# Altium schematic symbol library lib_Gabriel.SchLib: 6 symbols
Pins are listed as number, name and electrical type; pins without a type are passive.

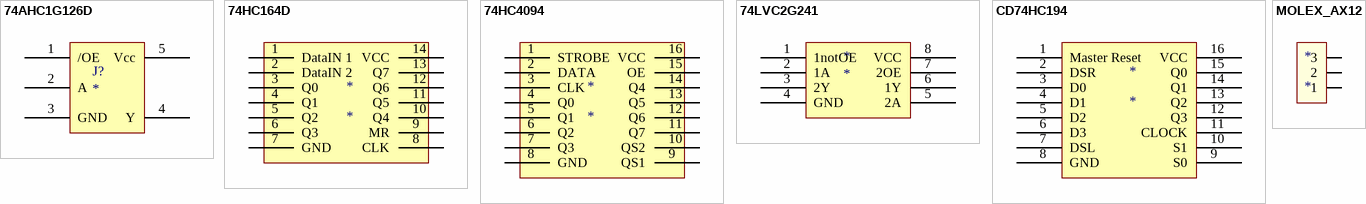
[diagram p0: symbols 74AHC1G126D to MOLEX_AX12]

## 74AHC1G126D
designator J?
footprint 74AHC1G126DVBR
pins: 1 /OE, 2 A, 3 GND, 4 Y, 5 Vcc

## 74HC164D
designator *
footprint SO14_N (SOIC, 14-Leads, Body 8.7x3.9mm, Pitch 1.27mm, IPC Medium Density)
pins: 1 DataIN 1, 2 DataIN 2, 3 Q0, 4 Q1, 5 Q2, 6 Q3, 7 GND, 8 CLK, 9 MR, 10 Q4, 11 Q5, 12 Q6, 13 Q7, 14 VCC

## 74HC4094
designator *
footprint SOIC16N_M (Footprint not found)
pins: 1 STROBE, 2 DATA, 3 CLK, 4 Q0, 5 Q1, 6 Q2, 7 Q3, 8 GND, 9 QS1, 10 QS2, 11 Q7, 12 Q6, 13 Q5, 14 Q4, 15 OE, 16 VCC

## 74LVC2G241
designator *
footprint TSSOP-ST8_N (Footprint not found)
pins: 1 1notOE, 2 1A, 3 2Y, 4 GND, 5 2A, 6 1Y, 7 2OE, 8 VCC

## CD74HC194
designator *
footprint TSSOP16_N (Footprint not found)
pins: 1 Master Reset, 2 DSR, 3 D0, 4 D1, 5 D2, 6 D3, 7 DSL, 8 GND, 9 S0, 10 S1, 11 CLOCK, 12 Q3, 13 Q2, 14 Q1, 15 Q0, 16 VCC

## MOLEX_AX12
designator *
footprint MOLEX_AX12_3
pins: 1, 2, 3